# Altium footprint library XAL1580-302MED.PcbLib: 3 footprints
Each footprint in its own frame and in the unit in brackets; x right, y up, seen from the top. Pads: shape width x height; smd on the part's side, far side on the other; paste and mask are expansions set on the pad; w line width, h text height; cw(c..) or ccw(c..) is an arc to the next point about the centre after c.
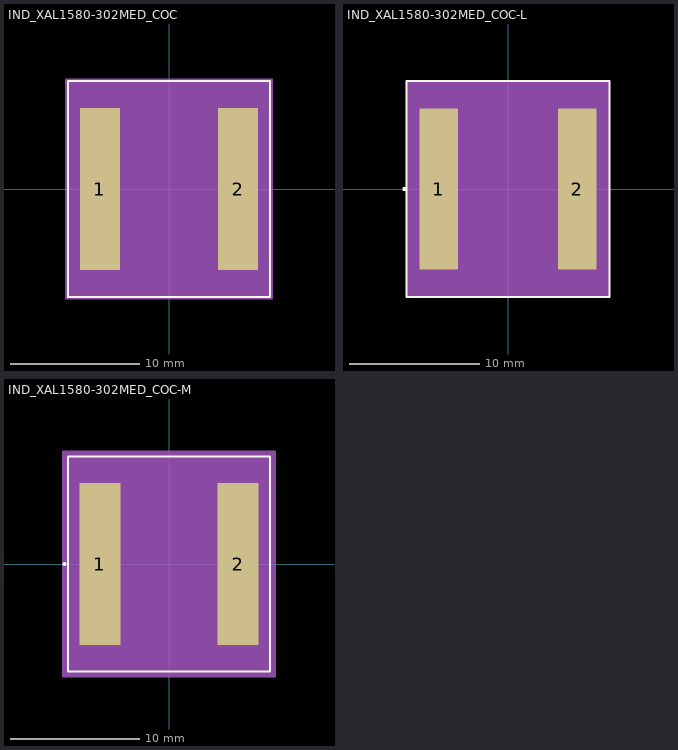
[diagram p0: the footprints below, top view; thin cyan lines are the x and y axes]

## IND_XAL1580-302MED_COC [mil]
pads (2):
  rect 122x492 smd paste+0 mask+0: 1(-210.5,0) 2(210.5,0)
Top Overlay:
  lines w6: -308,-328 308,-328 308,328 -308,328 -308,-328
Mechanical 13:
  circle w0: c0,0 r0
  lines w1: -303,-323 303,-323 303,323 -303,323 -303,-323
Mechanical 15:
  region: -313,-256 -313,256 -313,333 313,333 313,256 313,-256 313,-333 -313,-333
  lines w6: -313,-256 -313,256 ; -313,-256 -313,-256 ; -313,-256 -313,-333 313,-333 313,-256 ; -313,256 -313,256 ; -313,256 -313,333 313,333 313,256 ; 313,-256 313,256 ; 313,-256 313,-256 ; 313,256 313,256
3D body "IND_XAL1580-302MED_COC.step": height 32.09, standoff 0, extent -302.99,-322.99 302.99,322.99

## IND_XAL1580-302MED_COC-L [mil]
pads (2):
  rect 118x490 smd paste+0 mask+0: 1(-210.5,0) 2(210.5,0)
Top Overlay:
  circle w6: c-315,0 r3
  lines w6: -308,-328 308,-328 308,328 -308,328 -308,-328
Mechanical 13:
  circle w0: c0,0 r3
  lines w1: -303,-323 303,-323 303,323 -303,323 -303,-323
Mechanical 15:
  region: -307,-249 -307,249 -307,327 307,327 307,249 307,-249 307,-327 -307,-327
  lines w6: -307,-249 -307,249 ; -307,-249 -307,-249 ; -307,-249 -307,-327 307,-327 307,-249 ; -307,249 -307,249 ; -307,249 -307,327 307,327 307,249 ; 307,-249 307,249 ; 307,-249 307,-249 ; 307,249 307,249
3D body "IND_XAL1580-302MED_COC.step": height 32.09, standoff 0, extent -302.99,-322.99 302.99,322.99

## IND_XAL1580-302MED_COC-M [mil]
pads (2):
  rect 126x494 smd paste+0 mask+0: 1(-210.5,0) 2(210.5,0)
Top Overlay:
  circle w6: c-319,0 r3
  lines w6: -308,-328 308,-328 308,328 -308,328 -308,-328
Mechanical 13:
  circle w0: c0,0 r3
  lines w1: -303,-323 303,-323 303,323 -303,323 -303,-323
Mechanical 15:
  region: -323,-267 -323,267 -323,343 323,343 323,267 323,-267 323,-343 -323,-343
  lines w6: -323,-267 -323,267 ; -323,-267 -323,-267 ; -323,-267 -323,-343 323,-343 323,-267 ; -323,267 -323,267 ; -323,267 -323,343 323,343 323,267 ; 323,-267 323,267 ; 323,-267 323,-267 ; 323,267 323,267
3D body "IND_XAL1580-302MED_COC.step": height 32.09, standoff 0, extent -302.99,-322.99 302.99,322.99